# Altium footprint library FMC_SDR.PcbLib: 29 footprints (part 2 of 2)
Each footprint in its own frame and in the unit in brackets; x right, y up, seen from the top. Pads: shape width x height; smd on the part's side, far side on the other; paste and mask are expansions set on the pad; w line width, h text height; cw(c..) or ccw(c..) is an arc to the next point about the centre after c.
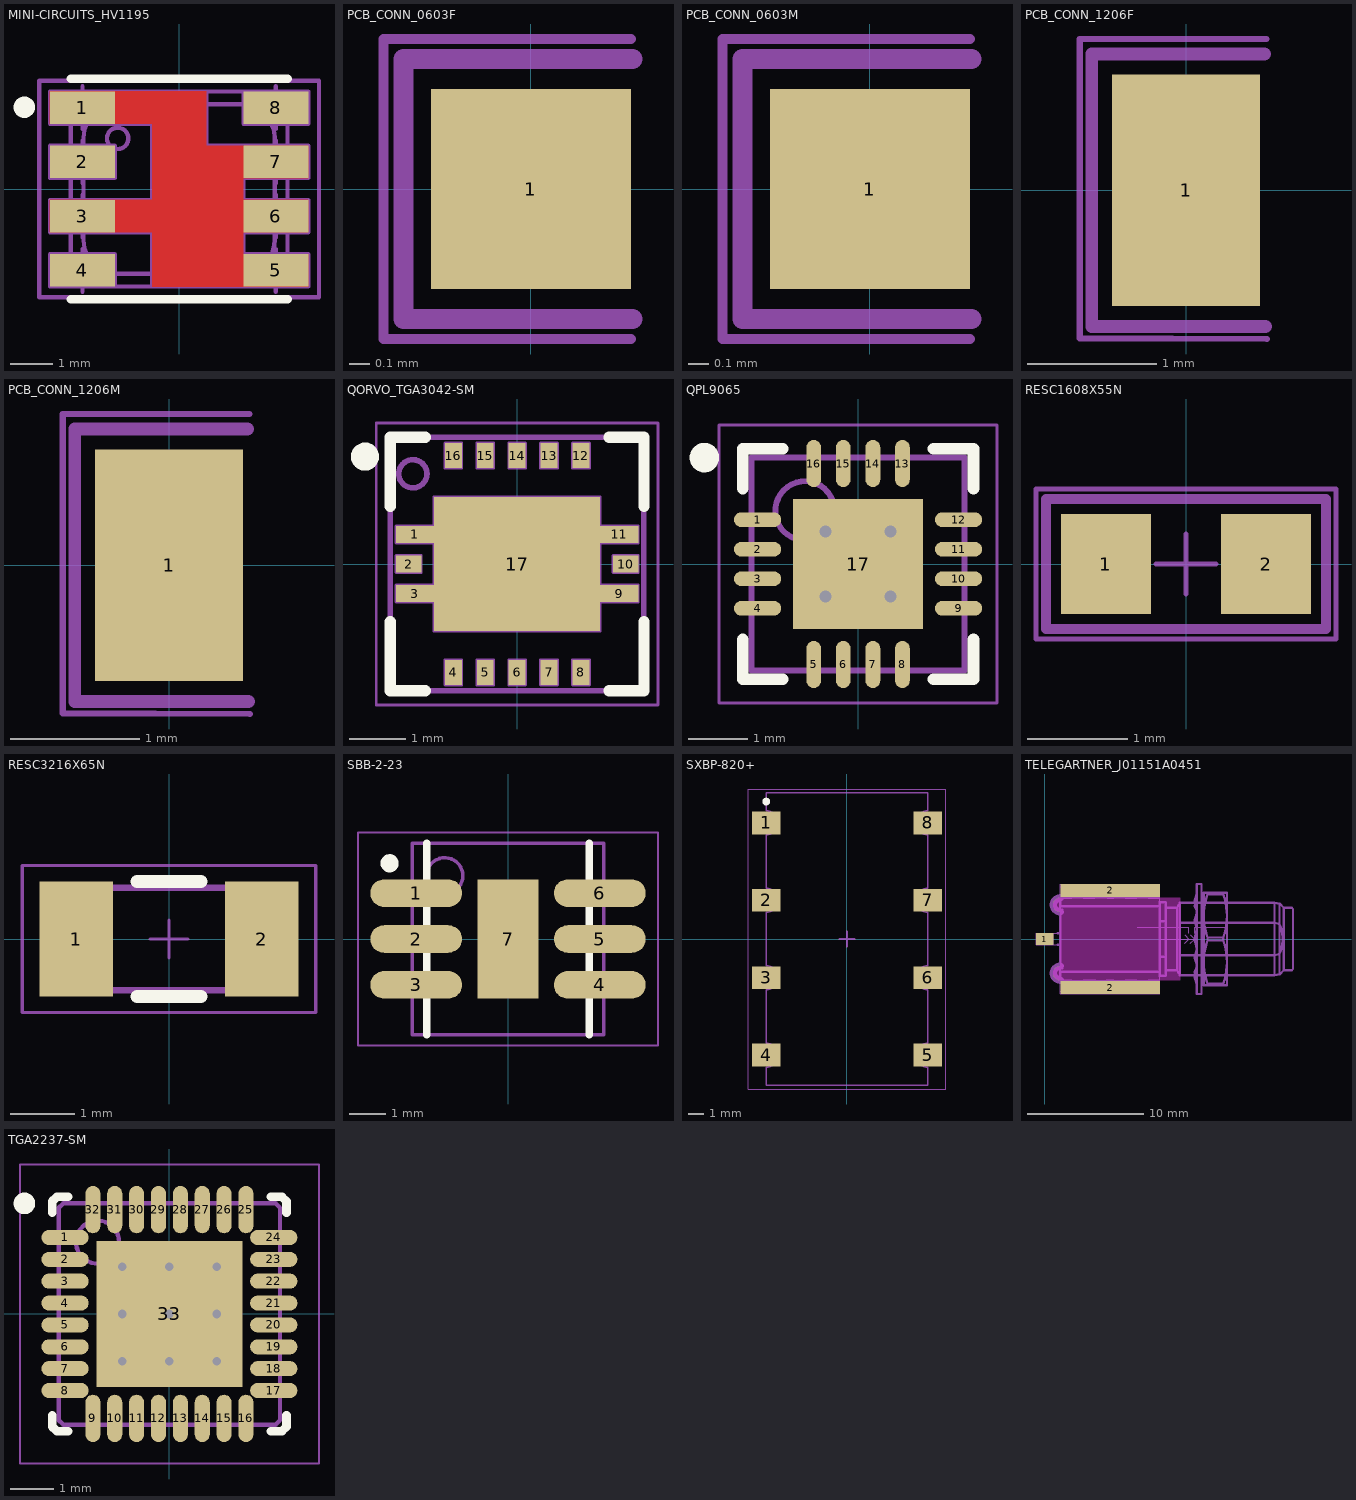
[diagram p1: the footprints below, top view; thin cyan lines are the x and y axes]

## MINI-CIRCUITS_HV1195 [mm] "MINI-CIRCUITS HV1195 Case, 1.27mm pitch; 8 pin, 4.57mm W X 5.08mm L"
height 2.21
pads (8):
  rect 1.52x0.76 smd: 1(-2.265,1.905) 2(-2.265,0.635) 3(-2.265,-0.635) 4(-2.265,-1.905) 5(2.265,-1.905) 6(2.265,-0.635) 7(2.265,0.635) 8(2.265,1.905)
Top Layer:
  region: -0.635,-2.285 -0.635,-1.015 -3.025,-1.015 -3.025,-0.255 -0.635,-0.255 -0.635,1.525 -3.025,1.525 -3.025,2.285 0.635,2.285 0.635,1.015 3.025,1.015 3.025,0.255 1.505,0.255 1.505,-0.255 3.025,-0.255 3.025,-1.015 1.505,-1.015 1.505,-1.525 3.025,-1.525 3.025,-2.285
Top Overlay:
  circle w0.25: c-3.625,1.915 r0.125
  lines w0.2: -2.54,-2.585 2.54,-2.585 ; -2.54,2.586 2.54,2.585
Mechanical 8:
  lines w0.1: -2.765,-1.905 -2.265,-1.905 ; -2.765,-0.635 -2.265,-0.635 ; -2.765,0.635 -2.265,0.635 ; -2.765,1.905 -2.265,1.905 ; -2.265,-2.405 -2.265,-1.905 ; -2.265,-1.405 -2.265,-1.905 ; -2.265,-1.135 -2.265,-0.635 ; -2.265,-0.135 -2.265,-0.635 ; -2.265,0.135 -2.265,0.635 ; -2.265,1.135 -2.265,0.635 ; -2.265,1.405 -2.265,1.905 ; -2.265,2.405 -2.265,1.905 ; -1.765,-1.905 -2.265,-1.905 ; -1.765,-0.635 -2.265,-0.635 ; -1.765,0.635 -2.265,0.635 ; -1.765,1.905 -2.265,1.905 ; -0.5,0 0,0 ; 0,-0.5 0,0 ; 0,0.5 0,0 ; 0.5,0 0,0 ; 1.765,-1.905 2.265,-1.905 ; 1.765,-0.635 2.265,-0.635 ; 1.765,0.635 2.265,0.635 ; 1.765,1.905 2.265,1.905 ; 2.265,-2.405 2.265,-1.905 ; 2.265,-1.405 2.265,-1.905 ; 2.265,-1.135 2.265,-0.635 ; 2.265,-0.135 2.265,-0.635 ; 2.265,0.135 2.265,0.635 ; 2.265,1.135 2.265,0.635 ; 2.265,1.405 2.265,1.905 ; 2.265,2.405 2.265,1.905 ; 2.765,-1.905 2.265,-1.905 ; 2.765,-0.635 2.265,-0.635 ; 2.765,0.635 2.265,0.635 ; 2.765,1.905 2.265,1.905 ; -3.025,-2.285 -1.505,-2.285 -1.505,-1.525 -3.025,-1.525 -3.025,-2.285 ; -3.025,-1.015 -0.635,-1.015 -0.635,-2.285 3.025,-2.285 3.025,-1.525 1.505,-1.525 1.505,-1.015 3.025,-1.015 3.025,-0.255 1.505,-0.255 1.505,0.255 3.025,0.255 3.025,1.015 0.635,1.015 0.635,2.285 -3.025,2.285 -3.025,1.525 -0.635,1.525 -0.635,-0.255 -3.025,-0.255 -3.025,-1.015 ; -3.025,0.255 -1.505,0.255 -1.505,1.015 -3.025,1.015 -3.025,0.255 ; 1.505,1.525 3.025,1.525 3.025,2.285 1.505,2.285 1.505,1.525
Mechanical 14:
  circle w0.1: c-1.44,1.185 r0.25
  lines w0.1: -2.54,-2.285 -2.54,2.285 2.54,2.285 2.54,-2.285 -2.54,-2.285 ; -2.24,-1.185 ccw(c-1.44,-1.185) -1.44,-1.985 1.44,-1.985 ccw(c1.44,-1.185) 2.24,-1.185 2.24,1.185 ccw(c1.44,1.185) 1.44,1.985 -1.44,1.985 ccw(c-1.44,1.185) -2.24,1.185 -2.24,-1.185
Mechanical 15:
  lines w0.1: -3.275,-2.535 3.275,-2.535 3.275,2.534 -3.275,2.535 -3.275,-2.535
3D body "MINI-CIRCUITS_HV1195.stp": height 2.21, standoff 0, extent -2.54,-2.285 2.54,2.285

## PCB_CONN_0603F [mm] "Colder connection between boards - by 0603 0R jumper"
height 7
pads (1):
  rect 1x1 smd: 1(0,0)
Mechanical 14:
  lines w0.1: 0.508,-0.65 -0.638,-0.65 -0.638,0.65 0.508,0.65
Mechanical 34:
  lines w0.05: -0.738,-0.75 0.5,-0.75
Mechanical 35:
  lines w0.05: -0.738,0.75 0.5,0.75
Mechanical 37:
  lines w0.05: -0.738,-0.75 -0.738,0.75

## PCB_CONN_0603M [mm] "Colder connection between boards - by 0603 0R jumper"
height 7
pads (1):
  rect 1x1 smd: 1(0,0)
Mechanical 14:
  lines w0.1: 0.508,-0.65 -0.638,-0.65 -0.638,0.65 0.508,0.65
Mechanical 34:
  lines w0.05: -0.738,-0.75 0.5,-0.75
Mechanical 35:
  lines w0.05: -0.738,0.75 0.5,0.75
Mechanical 37:
  lines w0.05: -0.738,-0.75 -0.738,0.75
3D body "RESC1608X55N.stp": height 0.55, standoff 0, extent 0.141,-0.475 1.891,0.475

## PCB_CONN_1206F [mm] "Colder connection between boards - by 1206 0R jumper"
height 7
pads (1):
  rect 1.15x1.8 smd: 1(0,0)
Mechanical 14:
  lines w0.1: 0.609,1.058 -0.732,1.058 -0.732,-1.059 0.619,-1.059
Mechanical 34:
  lines w0.05: -0.825,-1.15 0.628,-1.156
Mechanical 35:
  lines w0.05: -0.825,1.175 0.625,1.175
Mechanical 37:
  lines w0.05: -0.825,-1.15 -0.825,1.175

## PCB_CONN_1206M [mm] "Colder connection between boards - by 1206 0R jumper"
height 7
pads (1):
  rect 1.15x1.8 smd: 1(0,0)
Mechanical 14:
  lines w0.1: 0.609,1.058 -0.732,1.058 -0.732,-1.059 0.619,-1.059
Mechanical 34:
  lines w0.05: -0.825,-1.15 0.628,-1.156
Mechanical 35:
  lines w0.05: -0.825,1.175 0.625,1.175
Mechanical 37:
  lines w0.05: -0.825,-1.15 -0.825,1.175
3D body "RESC3216X65N.stp": height 0.65, standoff 0, extent -0.225,-0.875 3.125,0.875

## QORVO_TGA3042-SM [mm] "QFN, 0.566mm Pitch X, 0.525 Pitch Y, Square; 16 Pin, 4.5mm L X 4.5mm W X 1.74mm H Body"
height 1.91
pads (17):
  rect 0.675x0.3 smd: 1(-1.813,0.525) 3(-1.813,-0.525) 9(1.813,-0.525) 11(1.813,0.525)
  rect 0.45x0.3 smd: 2(-1.925,0) 10(1.925,0)
  rect 0.3x0.45 smd: 4(-1.132,-1.925) 5(-0.566,-1.925) 6(0,-1.925) 7(0.566,-1.925) 8(1.132,-1.925) 12(1.132,1.925) 13(0.566,1.925) 14(0,1.925) 15(-0.566,1.925) 16(-1.132,1.925)
  rect 2.95x2.384 smd: 17(0,0)
Top Overlay:
  circle w0.25: c-2.699,1.905 r0.125
  lines w0.2: -2.25,-1.025 -2.25,-2.25 -1.632,-2.25 ; -2.25,1.025 -2.25,2.25 -1.632,2.25 ; 1.632,-2.25 2.25,-2.25 2.25,-1.025 ; 1.632,2.25 2.25,2.25 2.25,1.025
Mechanical 8:
  drawing of 233 lines, arcs and shapes, not listed
Mechanical 14:
  circle w0.1: c-1.85,1.6 r0.25
  lines w0.1: -2.25,-2.25 -2.25,2.25 ; -2.25,-2.25 2.25,-2.25 ; -2.25,-2.25 -2.25,2.25 ; -2.25,-2.25 2.25,-2.25 ; -2.25,2.25 2.25,2.25 ; -2.25,2.25 2.25,2.25 ; 2.25,-2.25 2.25,2.25 ; 2.25,-2.25 2.25,2.25
Mechanical 15:
  lines w0.05: -2.5,-2.5 -2.5,2.5 2.5,2.5 2.5,-2.5 -2.5,-2.5
3D body "QORVO_TGA3042-SM.stp": height 1.91, standoff 0, extent -2.25,-2.25 2.25,2.25

## QPL9065 [mm]
height 1.26
pads (17):
  oval 0.8x0.25 smd: 1(-1.7,0.75) 2(-1.7,0.25) 3(-1.7,-0.25) 4(-1.7,-0.75) 9(1.7,-0.75) 10(1.7,-0.25) 11(1.7,0.25) 12(1.7,0.75)
  oval 0.25x0.8 smd: 5(-0.75,-1.7) 6(-0.25,-1.7) 7(0.25,-1.7) 8(0.75,-1.7) 13(0.75,1.7) 14(0.25,1.7) 15(-0.25,1.7) 16(-0.75,1.7)
  rect 2.2x2.2 smd: 17(0,0)
via 0.55,-0.55 diameter 0.5 hole 0.2
via -0.55,-0.55 diameter 0.5 hole 0.2
via 0.55,0.55 diameter 0.5 hole 0.2
via -0.55,0.55 diameter 0.5 hole 0.2
Top Overlay:
  circle w0.25: c-2.6,1.8 r0.125
  lines w0.2: -1.95,-1.275 -1.95,-1.95 -1.275,-1.95 ; -1.95,1.275 -1.95,1.95 -1.275,1.95 ; 1.275,-1.95 1.95,-1.95 1.95,-1.275 ; 1.275,1.95 1.95,1.95 1.95,1.275
Mechanical 13:
  circle w0.1: c-0.9,0.9 r0.5
  lines w0.1: -1.8,-1.8 1.8,-1.8 1.8,1.8 -1.8,1.8 -1.8,-1.8
Mechanical 15:
  lines w0.05: -2.35,-2.35 2.35,-2.35 2.35,2.35 -2.35,2.35 -2.35,-2.35
  lines w0.1: -0.5,0 0.5,0 ; 0,-0.5 0,0.5
3D body: height 1.26, standoff 0, extent -1.8,-1.8 1.8,1.8

## RESC1608X55N [mm] "Chip Resistor, EIA 0603, Metric 1608, Body 1.6x0.8mm, IPC Medium Density"
height 0.55
pads (2):
  rect 0.9x1 smd: 1(-0.8,0) 2(0.8,0)
Mechanical 14:
  lines w0.1: -1.4,-0.65 1.4,-0.65 1.4,0.65 -1.4,0.65 -1.4,-0.65
Mechanical 32:
  lines w0.05: 0,-0.3 0,0.3
Mechanical 33:
  lines w0.05: -0.3,0 0.3,0
Mechanical 34:
  lines w0.05: -1.5,-0.75 1.5,-0.75
Mechanical 35:
  lines w0.05: -1.5,0.75 1.5,0.75
Mechanical 36:
  lines w0.05: 1.5,-0.75 1.5,0.75
Mechanical 37:
  lines w0.05: -1.5,-0.75 -1.5,0.75
3D body "RESC1608X55N.stp": height 0.55, standoff 0, extent -0.875,-0.475 0.875,0.475

## RESC3216X65N [mm] "Chip Resistor, EIA 1206, Metric 3216, Body 3.2x1.6mm, IPC Medium Density"
height 0.65
pads (2):
  rect 1.15x1.8 smd: 1(-1.45,0) 2(1.45,0)
Top Overlay:
  lines w0.2: -0.5,-0.9 0.5,-0.9 ; -0.5,0.9 0.5,0.9
Mechanical 14:
  lines w0.1: -1.6,-0.8 -1.6,0.8 1.6,0.8 1.6,-0.8 -1.6,-0.8
Mechanical 15:
  lines w0.05: -0.3,0 0.3,0 ; 0,-0.3 0,0.3 ; -2.3,-1.15 -2.3,1.15 2.3,1.15 2.3,-1.15 -2.3,-1.15
3D body "RESC3216X65N.stp": height 0.65, standoff 0, extent -1.675,-0.875 1.675,0.875

## SBB-2-23 [mil] "SOP, 6-Leads, Body 5,08x5,08mm, Pitch 1,27mm, Thermal Pad 5,34x1,68mm, IPC Medium Density"
height 70.08
pads (7):
  oval 100x30 smd: 1(-100,50) 2(-100,0) 3(-100,-50) 4(100,-50) 5(100,0) 6(100,50)
  rect 66.14x130 smd: 7(0,0)
Top Overlay:
  circle w9.84: c-128.94,82.48 r4.92
  lines w7.87: -88.58,-104.33 -88.58,104.33 ; 88.58,-104.33 88.58,104.33
Mechanical 13:
  circle w3.94: c-68.9,68.9 r19.68
  lines w3.94: -104.33,-104.33 -104.33,104.33 104.33,104.33 104.33,-104.33 -104.33,-104.33
Mechanical 15:
  lines w1.97: -163.39,-116.14 -163.39,116.14 163.39,116.14 163.39,-116.14 -163.39,-116.14
  lines w3.94: -19.68,0 19.68,0 ; 0,-19.68 0,19.68
3D body: height 70.08, standoff 20.08, extent -104.33,-104.33 104.33,104.33

## SXBP-820+ [mm] "Chip Array, Concave, 8-Leads, Pitch 5,08mm,  Body 18,80x11,18mm,  IPC Medium Density"
height 6.86
pads (8):
  rect 1.85x1.5 smd: 1(-5.3,7.62) 2(-5.3,2.54) 3(-5.3,-2.54) 4(-5.3,-7.62) 5(5.3,-7.62) 6(5.3,-2.54) 7(5.3,2.54) 8(5.3,7.62)
Top Overlay:
  circle w0.25: c-5.3,9.017 r0.125
Mechanical 13:
  lines w0.1: -5.3,-9.59 5.3,-9.59 5.3,-8.407 cw(c5.3,-7.62) 5.3,-6.833 5.3,-3.327 cw(c5.3,-2.54) 5.3,-1.753 5.3,1.753 cw(c5.3,2.54) 5.3,3.327 5.3,6.833 cw(c5.3,7.62) 5.3,8.407 5.3,9.59 -5.3,9.59 -5.3,8.407 cw(c-5.3,7.62) -5.3,6.833 -5.3,3.327 cw(c-5.3,2.54) -5.3,1.753 -5.3,-1.753 cw(c-5.3,-2.54) -5.3,-3.327 -5.3,-6.833 cw(c-5.3,-7.62) -5.3,-8.407 -5.3,-9.59
Mechanical 15:
  lines w0.05: -6.485,-9.84 6.485,-9.84 6.485,9.84 -6.485,9.84 -6.485,-9.84
  lines w0.1: -0.5,0 0.5,0 ; 0,-0.5 0,0.5
3D body: height 6.86, standoff 0, extent -5.78,-9.59 5.78,9.59

## TELEGARTNER_J01151A0451 [mm] "SMA 50 ohm Edge Mount Bulkhead Jack Receptacle"
height 7
pads (3):
  rect 1.5x1 smd: 1(0,0)
  rect 8.6x1.1 smd: 2(5.65,-4.2) 2(5.65,4.2)
Keep-Out Layer:
  board cut-out: 1.35,-3.55 1.231,-3.55 1.01,-3.459 0.841,-3.29 0.75,-3.069 0.75,-2.831 0.841,-2.61 1.01,-2.441 1.231,-2.35 1.35,-2.35 1.35,2.35 1.231,2.35 1.01,2.441 0.841,2.61 0.75,2.831 0.75,3.069 0.841,3.29 1.01,3.459 1.231,3.55 1.35,3.55 11.7,3.55 11.7,-3.55
Mechanical 1:
  lines w0.1: 1.35,-3.55 9.95,-3.55 ; 1.35,-2.35 1.35,2.35 ; 1.35,3.55 9.95,3.55
  lines w0.635: 1.35,-3.55 cw(c1.35,-2.95) 1.35,-2.35 ; 1.35,2.35 cw(c1.35,2.95) 1.35,3.55
Mechanical 3:
  lines w0.2: 1.1,-0.5 1.35,-0.5 ; 1.1,0.5 1.35,0.5 ; 1.35,-3.2 1.35,3.2 ; 1.35,-2.828 9.95,-2.828 ; 1.35,2.828 9.95,2.828 ; 9.95,-3.2 9.95,3.2 ; 9.95,-3.175 10.45,-3.175 10.45,3.175 9.95,3.175 ; 9.95,-1.534 10.45,-1.534 ; 9.95,1.534 10.45,1.534 ; 10.45,-2.7 11.45,-2.7 ; 10.45,2.7 11.45,2.7 ; 11.692,-1.416 19.85,-1.416 20.292,-1.274 ccw(c17.512,0) 20.292,1.274 19.85,1.416 11.692,1.416 ; 13.15,-4 12.95,-3.312 13.15,-3.253 ; 13.15,-3.415 12.95,-2.868 13.15,-2.36 ; 13.15,-2.31 12.95,-1.656 13.15,-0.886 ; 13.15,-0.817 12.95,0 13.15,0.825 ; 13.15,0.894 12.95,1.656 13.15,2.316 ; 13.15,2.366 12.95,2.868 13.15,3.464 ; 13.15,3.253 12.95,3.312 13.15,4 ; 13.55,-4 13.75,-3.312 13.55,-3.253 ; 13.55,-3.464 13.75,-2.868 13.55,-2.367 ; 13.55,-2.299 13.75,-1.656 13.55,-0.906 ; 13.55,-0.813 13.75,0 13.55,0.813 ; 13.55,0.906 13.75,1.656 13.55,2.306 ; 13.55,2.374 13.75,2.868 13.55,3.464 ; 13.55,3.253 13.75,3.312 13.55,4 ; 14.067,-4 14.067,-3.875 ; 14.067,4 14.067,3.875 ; 15.433,-4 15.433,-3.875 ; 15.433,4 15.433,3.875 ; 21.35,-2.7 20.65,-2.7 ; 21.35,2.7 20.65,2.7 ; 21.45,-2.6 21.45,2.6 ; 11.45,-2.7 11.692,-3.12 ; 11.45,-2.7 11.45,2.7 ; 11.45,2.7 11.692,3.12 ; 11.692,-3.12 11.692,3.12 ; 11.692,-3.12 19.85,-3.12 ; 11.692,3.12 19.85,3.12 ; 14.067,-3.875 cw(c19.461,-2) 14.067,-0.125 ; 14.067,-3.875 15.433,-3.875 ; 14.067,-0.125 14.067,0.125 ; 14.067,-0.125 15.433,-0.125 ; 14.067,0.125 cw(c19.461,2) 14.067,3.875 ; 14.067,0.125 15.433,0.125 ; 14.067,3.875 15.433,3.875 ; 15.433,-3.875 ccw(c10.039,-2) 15.433,-0.125 ; 15.433,-0.125 15.433,0.125 ; 15.433,0.125 ccw(c10.039,2) 15.433,3.875 ; 19.85,-3.12 19.85,3.12 ; 19.85,-3.12 20.292,-3.058 ; 19.85,3.12 20.292,3.058 ; 20.292,-3.058 20.65,-2.7 ; 20.292,-3.058 20.292,3.058 ; 20.292,3.058 20.65,2.7 ; 20.65,-2.7 20.65,2.7 ; 13.15,-4.75 13.55,-4.75 13.55,4.75 13.15,4.75 13.15,-4.75 ; 13.75,-4 13.75,4 15.75,4 15.75,-4 13.75,-4
Mechanical 8:
  lines w0.1: -0.5,0 0,0 ; 0,-0.5 0,0 ; 0,0.5 0,0 ; 0.5,0 0,0 ; 5.15,-4.2 5.65,-4.2 ; 5.15,4.2 5.65,4.2 ; 5.65,-4.7 5.65,-4.2 ; 5.65,-3.7 5.65,-4.2 ; 5.65,3.7 5.65,4.2 ; 5.65,4.7 5.65,4.2 ; 6.15,-4.2 5.65,-4.2 ; 6.15,4.2 5.65,4.2 ; 8,1 12.45,1 12.45,0.5 ; 9.95,-0.25 9.95,0.25 ; 9.95,0 12.45,0 ; 12.096,-0.354 12.45,0 ; 12.096,0.354 12.45,0 ; 12.596,-0.354 12.95,0 ; 12.596,0.354 12.95,0 ; 12.95,0.5 12.95,1 15.75,1 ; 12.45,0 12.95,0 ; -0.75,-0.5 0.75,-0.5 0.75,0.5 -0.75,0.5 -0.75,-0.5 ; 1.35,-4.75 1.35,-3.65 9.95,-3.65 9.95,-4.75 1.35,-4.75 ; 1.35,3.65 1.35,4.75 9.95,4.75 9.95,3.65 1.35,3.65
  text "3mm" at 13.05,1.275 h1
  text "2.5mm" at 8,1.25 h1
Mechanical 14:
  lines w0.1: 1.35,-3.5 2.35,-3.5 ; 1.35,-2.828 9.95,-2.828 ; 1.35,-0.5 -0.65,-0.5 -0.65,0.5 1.35,0.5 ; 1.35,2.828 9.95,2.828 ; 1.35,3.5 2.35,3.5 ; 3.35,-3.5 4.35,-3.5 ; 3.35,3.5 4.35,3.5 ; 5.35,-3.5 5.95,-3.5 ; 5.35,3.5 5.95,3.5 ; 6.95,-3.5 7.95,-3.5 ; 6.95,3.5 7.95,3.5 ; 8.95,-3.5 9.95,-3.5 ; 8.95,3.5 9.95,3.5 ; 9.95,-3.175 10.45,-3.175 10.45,3.175 9.95,3.175 ; 9.95,-1.534 10.45,-1.534 ; 9.95,1.534 10.45,1.534 ; 10.45,-2.7 11.45,-2.7 ; 10.45,2.7 11.45,2.7 ; 11.692,-1.416 19.85,-1.416 20.292,-1.274 ccw(c17.512,0) 20.292,1.274 19.85,1.416 11.692,1.416 ; 13.15,-4 12.95,-3.312 13.15,-3.253 ; 13.15,-3.415 12.95,-2.868 13.15,-2.36 ; 13.15,-2.31 12.95,-1.656 13.15,-0.886 ; 13.15,-0.817 12.95,0 13.15,0.825 ; 13.15,0.894 12.95,1.656 13.15,2.316 ; 13.15,2.366 12.95,2.868 13.15,3.464 ; 13.15,3.253 12.95,3.312 13.15,4 ; 13.55,-4 13.75,-3.312 13.55,-3.253 ; 13.55,-3.464 13.75,-2.868 13.55,-2.367 ; 13.55,-2.299 13.75,-1.656 13.55,-0.906 ; 13.55,-0.813 13.75,0 13.55,0.813 ; 13.55,0.906 13.75,1.656 13.55,2.306 ; 13.55,2.374 13.75,2.868 13.55,3.464 ; 13.55,3.253 13.75,3.312 13.55,4 ; 14.067,-4 14.067,-3.875 ; 14.067,4 14.067,3.875 ; 15.433,-4 15.433,-3.875 ; 15.433,4 15.433,3.875 ; 21.35,-2.7 20.65,-2.7 ; 21.35,2.7 20.65,2.7 ; 21.45,-2.6 21.45,2.6 ; 11.45,-2.7 11.692,-3.12 ; 11.45,-2.7 11.45,2.7 ; 11.45,2.7 11.692,3.12 ; 11.692,-3.12 19.85,-3.12 ; 11.692,-3.12 11.692,3.12 ; 11.692,3.12 19.85,3.12 ; 14.067,-3.875 cw(c19.461,-2) 14.067,-0.125 ; 14.067,-3.875 15.433,-3.875 ; 14.067,-0.125 14.067,0.125 ; 14.067,-0.125 15.433,-0.125 ; 14.067,0.125 cw(c19.461,2) 14.067,3.875 ; 14.067,0.125 15.433,0.125 ; 14.067,3.875 15.433,3.875 ; 15.433,-3.875 ccw(c10.039,-2) 15.433,-0.125 ; 15.433,-0.125 15.433,0.125 ; 15.433,0.125 ccw(c10.039,2) 15.433,3.875 ; 19.85,-3.12 19.85,3.12 ; 19.85,-3.12 20.292,-3.058 ; 19.85,3.12 20.292,3.058 ; 20.292,-3.058 20.65,-2.7 ; 20.292,-3.058 20.292,3.058 ; 20.292,3.058 20.65,2.7 ; 20.65,-2.7 20.65,2.7 ; 1.35,-4.5 9.95,-4.5 9.95,4.5 1.35,4.5 1.35,-4.5 ; 13.15,-4.75 13.55,-4.75 13.55,4.75 13.15,4.75 13.15,-4.75 ; 13.75,-4 13.75,4 15.75,4 15.75,-4 13.75,-4
Drill Drawing:
  lines w0.1: 1.348,2.468 0.926,3.374 ; 1.832,2.952 0.926,3.374 ; 2.29,-2.104 1.35,-1.762 ; 2.29,-1.42 1.35,-1.762 ; 5.14,2.083 2.217,2.083 0.926,3.374 ; 7.794,-2.61 8.136,-3.55 ; 7.794,2.61 8.136,3.55 ; 8.478,-2.61 8.136,-3.55 ; 8.478,2.61 8.136,3.55 ; 9.01,-2.104 9.95,-1.762 ; 9.01,-1.42 9.95,-1.762 ; 9.95,-4.55 9.95,-3.55 1.35,-3.55 cw(c1.35,-2.95) 1.35,-2.35 1.35,2.35 cw(c1.35,2.95) 1.35,3.55 9.95,3.55 9.95,4.55 ; 9.95,-2.762 9.95,-0.762 ; 1.35,-1.762 9.95,-1.762 ; 8.136,-3.55 8.136,3.55
  text "7.1" at 7.889,-0.244 h1
  text "8.6" at 4.762,-1.609 h1
  text "r0.6" at 2.536,2.233 h1
3D body "TELEGARTNER_J01151A0451_Part1.stp": height 4, standoff -3.6, extent -0.65,-4.498 21.45,4.498
3D body "TELEGARTNER_J01151A0451_Part2.stp": height 5.25, standoff -4.25, extent 12.95,-4.75 15.75,4.75

## TGA2237-SM [mm] "QFN, 32-Leads, Body 5,00x5,00mm, Pitch 0,51mm, Thermal Pad 3,40x3,40mm, IPC Low Density"
height 1.76
pads (33):
  oval 1.1x0.35 smd: 1(-2.425,1.778) 2(-2.425,1.27) 3(-2.425,0.762) 4(-2.425,0.254) 5(-2.425,-0.254) 6(-2.425,-0.762) 7(-2.425,-1.27) 8(-2.425,-1.778) 17(2.425,-1.778) 18(2.425,-1.27) 19(2.425,-0.762) 20(2.425,-0.254) 21(2.425,0.254) 22(2.425,0.762) 23(2.425,1.27) 24(2.425,1.778)
  oval 0.35x1.1 smd: 9(-1.778,-2.425) 10(-1.27,-2.425) 11(-0.762,-2.425) 12(-0.254,-2.425) 13(0.254,-2.425) 14(0.762,-2.425) 15(1.27,-2.425) 16(1.778,-2.425) 25(1.778,2.425) 26(1.27,2.425) 27(0.762,2.425) 28(0.254,2.425) 29(-0.254,2.425) 30(-0.762,2.425) 31(-1.27,2.425) 32(-1.778,2.425)
  rect 3.4x3.4 smd: 33(0,0)
via 1.1,-1.1 diameter 0.5 hole 0.2
via 0,-1.1 diameter 0.5 hole 0.2
via -1.1,-1.1 diameter 0.5 hole 0.2
via 1.1,0 diameter 0.5 hole 0.2
via 0,0 diameter 0.5 hole 0.2
via -1.1,0 diameter 0.5 hole 0.2
via 1.1,1.1 diameter 0.5 hole 0.2
via 0,1.1 diameter 0.5 hole 0.2
via -1.1,1.1 diameter 0.5 hole 0.2
Top Overlay:
  circle w0.25: c-3.37,2.57 r0.125
  lines w0.2: -2.72,-2.355 -2.72,-2.618 -2.618,-2.72 -2.355,-2.72 ; -2.72,2.355 -2.72,2.618 -2.618,2.72 -2.355,2.72 ; 2.355,-2.72 2.618,-2.72 2.72,-2.618 2.72,-2.355 ; 2.355,2.72 2.618,2.72 2.72,2.618 2.72,2.355
Mechanical 13:
  circle w0.1: c-1.67,1.67 r0.5
  lines w0.1: -2.57,-2.468 -2.57,2.468 -2.468,2.57 2.468,2.57 2.57,2.468 2.57,-2.468 2.468,-2.57 -2.468,-2.57 -2.57,-2.468
Mechanical 15:
  lines w0.05: -3.475,-3.475 3.475,-3.475 3.475,3.475 -3.475,3.475 -3.475,-3.475
  lines w0.1: -0.5,0 0.5,0 ; 0,-0.5 0,0.5
3D body: height 1.76, standoff 0.01, extent -2.57,-2.57 2.57,2.57